# Altium schematic symbol library mitsumi.SchLib: 1 symbol
Pins are listed as number, name and electrical type; pins without a type are passive.

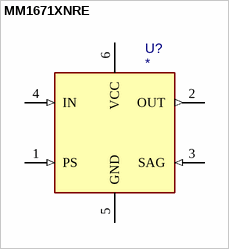
[diagram p0: symbol MM1671XNRE]

## MM1671XNRE
designator U?
Value: MM1671XNRE; PN: *; ExtraInfo: *; Package: SOT23-6
footprint SOT23-6 (6-Lead Plastic Small Outline Transistor)
pins: 1 PS (in), 2 OUT (out), 3 SAG (in), 4 IN (in), 5 GND (power), 6 VCC (power)